# Altium footprint library LED-0805-CATHODE.PcbLib: 1 footprints
Each footprint in its own frame and in the unit in brackets; x right, y up, seen from the top. Pads: shape width x height; smd on the part's side, far side on the other; paste and mask are expansions set on the pad; w line width, h text height; cw(c..) or ccw(c..) is an arc to the next point about the centre after c.
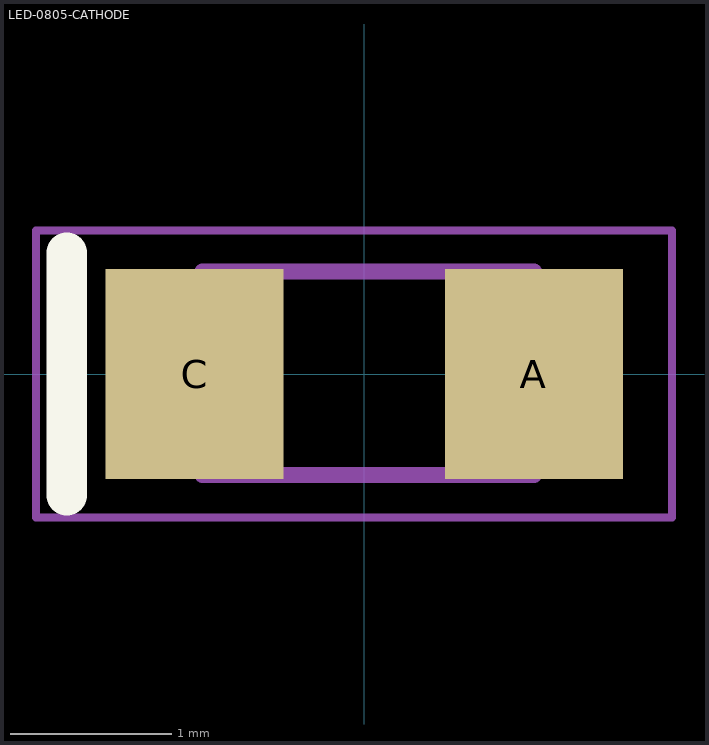
[diagram p0: the footprint, top view; thin cyan lines are the x and y axes]

## LED-0805-CATHODE [mm] "0805 Led cathode marking"
height 0.7
pads (2):
  rect 1.1x1.3 smd: A(1.05,0) C(-1.05,0)
Top Overlay:
  lines w0.25: -1.84,-0.75 -1.84,0.75
Top Assembly:
  lines w0.1: -1,-0.625 1.05,-0.625 1.05,0.635 -1,0.635 -1,-0.625
Top Courtyard:
  lines w0.05: -2.032,-0.889 -2.032,0.889 1.905,0.889 1.905,-0.889 -2.032,-0.889
Top Designator:
  text ".Designator" at -2.999,-0.2 h0.6
3D body "Download_STP_WL-SMCW-0805 (rev1).stp": height 0.7, standoff 0, extent -1,-0.62 1,0.63